# EAGLE library part 555764-1 (library con-amp)
AMP connector
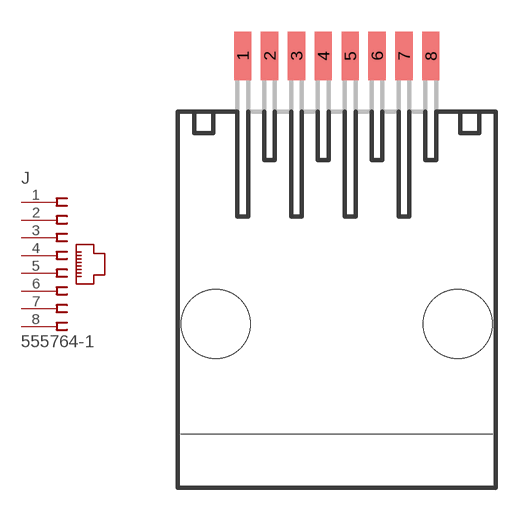
[diagram p29: symbol with the pads of 555764-1; footprint 555764-1]

Designator prefix J

## 555764-1  [555764-1]
1  1  pas
2  2  pas
3  3  pas
4  4  pas
5  5  pas
6  6  pas
7  7  pas
8  8  pas

## Footprint 555764-1 (pad centres in mm)
Modular Jack without Panel Stops
smd 0.813 x 2.286: 1 -4.445,11.533; 2 -3.175,11.533; 3 -1.905,11.533; 4 -0.635,11.533; 5 0.635,11.533; 6 1.905,11.533; 7 3.175,11.533; 8 4.445,11.533
hole 3.251 at -5.715,-1.143
hole 3.251 at 5.715,-1.143